# EAGLE library part TL5001QD (library LARS_409_MC)
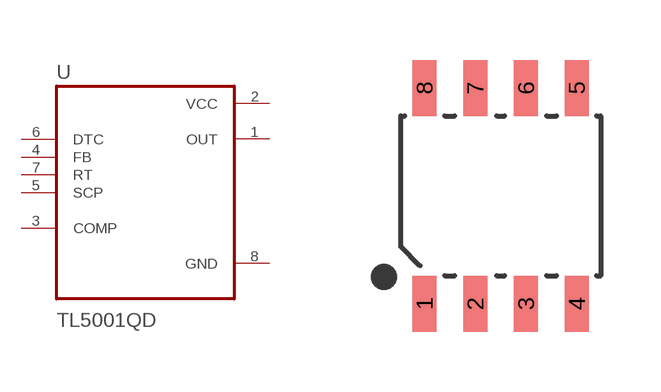
[diagram p11: symbol with the pads of SOIC-8; footprint SOIC-8]

Designator prefix -

## TL5001QD  [SOIC-8]
1  OUT  out
2  VCC  pwr
3  COMP
4  FB  in
5  SCP  in
6  DTC  in
7  RT  in
8  GND  pwr

## Footprint SOIC-8 (pad centres in mm)
smd 0.6 x 1.4: 1 -1.905,-2.7; 2 -0.635,-2.7; 3 0.635,-2.7; 4 1.905,-2.7; 5 1.905,2.7; 6 0.635,2.7; 7 -0.635,2.7; 8 -1.905,2.7